# Altium schematic symbol library PH2.0-8P_2021-08-20.SCHLIB: 1 symbol
Pins are listed as number, name and electrical type; pins without a type are passive.

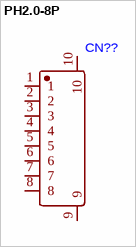
[diagram p0: symbol PH2.0-8P]

## PH2.0-8P
designator CN??
footprint CONN-SMD_X2016WRS-08-9TSW
pins: 1, 2, 3, 4, 5, 6, 7, 8, 9, 10